# EAGLE library part WE-BMS_74941300 (library Wurth_Signal & Communications_WE-BMS)
WE-BMS Transformer for Battery Management Systems Characteristics Supports BMS isolation Supports serial daisy chain isoSPI and SPI 800 VDC and 1000 VDC working voltage AEC-Q200 qualification Operating temperature: -40°C up to +125°C Applications Solar energy storage Energy Storage systems Uninterrupted Power Supply (UPS) E-bikes, E-scooters <https://www.we-online.com/components/media/o489329v209%20UtBMS_Group.jpg> Details see: www.we-online.com/en/components/products/WE-BMS <www.we-online.com/catalog/WE-BMS/?utm_source=eagle_model&utm_medium=description_link&utm_campaign=eisos_eagle> Created by Ella Wu 2022-04-13 2022 (C) Würth Elektronik
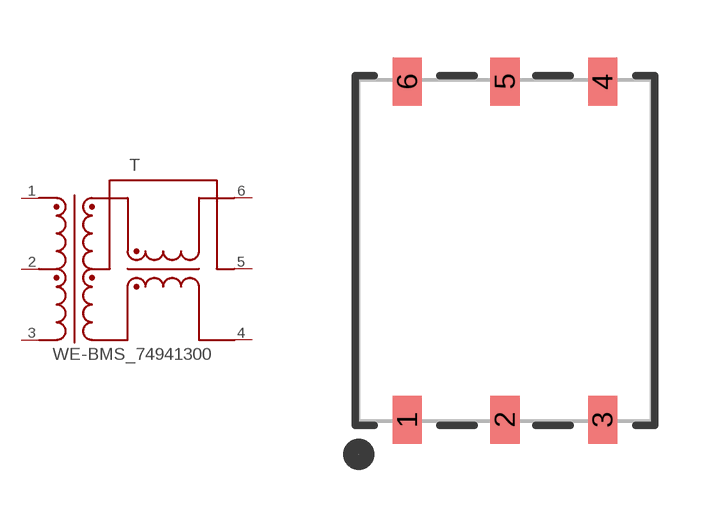
[diagram p1: symbol with the pads of WE-BMS_74941300; footprint WE-BMS_74941300]

Designator prefix T

## WE-BMS_74941300 (CREEPAGE-DISTANCE: 6mm; DATASHEET-URL: https://www.we-online.com/redexpert/spec/74941300?ae; HEIGHT: 5.5mm; INSULATION-TEST-VOLTAGE: 4300V(DC); LENGTH: 7.6mm; MOUNT: SMT; NUMBER-OF-PORTS: 1; PART-NUMBER: 74941300; VALUE: 74941300; WIDTH: 9.5mm; WORKING-VOLTAGE: 1000V(DC))  [WE-BMS_74941300]
1  1  pas
2  2  pas
3  3  pas
4  4  pas
5  5  pas
6  6  pas

## Footprint WE-BMS_74941300 (pad centres in mm)
smd 0.76 x 1.25: 1 -2.54,-4.4; 2 0,-4.4; 3 2.54,-4.4; 4 2.54,4.4; 5 0,4.4; 6 -2.54,4.4